# Altium schematic symbol library TiLib.SchLib: 1 symbol
Pins are listed as number, name and electrical type; pins without a type are passive.

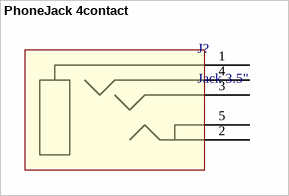
[diagram p0: symbol PhoneJack 4contact]

## PhoneJack 4contact
designator J?, comment Jack 3.5"
miniJack 4 contact
footprint SJ-43515TS-SMT (3.5mm Jack 4pin)
pins: 1, 2, 3, 4, 5